# EAGLE library part AD8232-ARMADO (library Eagle_CAD_parts)
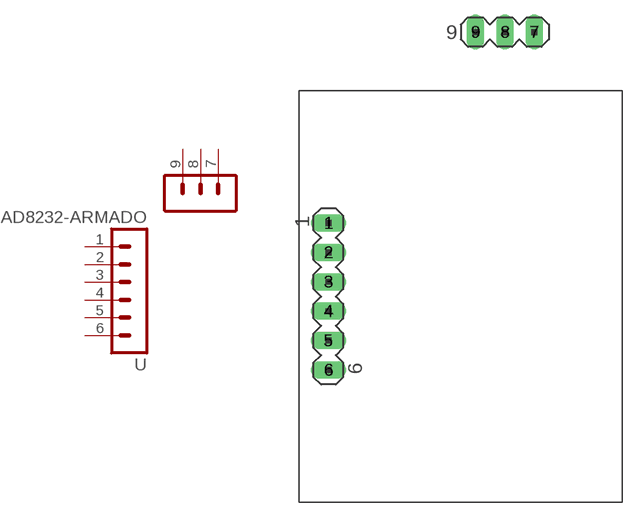
[diagram p11: symbol with the pads of PINES-ECG; footprint PINES-ECG]

Designator prefix -

## AD8232-ARMADO  [PINES-ECG]
1  GND  pas
2  3.3V  pas
3  OUT  pas
4  LOD-  pas
5  LOD+  pas
6  !SDN  pas
7  RA  pas
8  LA  pas
9  RL  pas

## Footprint PINES-ECG (pad centres in mm)
drill 1.016 long: 1 -11.43,3.81; 2 -11.43,1.27; 3 -11.43,-1.27; 4 -11.43,-3.81; 5 -11.43,-6.35; 6 -11.43,-8.89; 7 6.35,20.32; 8 3.81,20.32; 9 1.27,20.32